# Altium footprint library 2440_LIB.PcbLib: 50 footprints (part 1 of 4)
Each footprint in its own frame and in the unit in brackets; x right, y up, seen from the top. Pads: shape width x height; smd on the part's side, far side on the other; paste and mask are expansions set on the pad; w line width, h text height; cw(c..) or ccw(c..) is an arc to the next point about the centre after c.
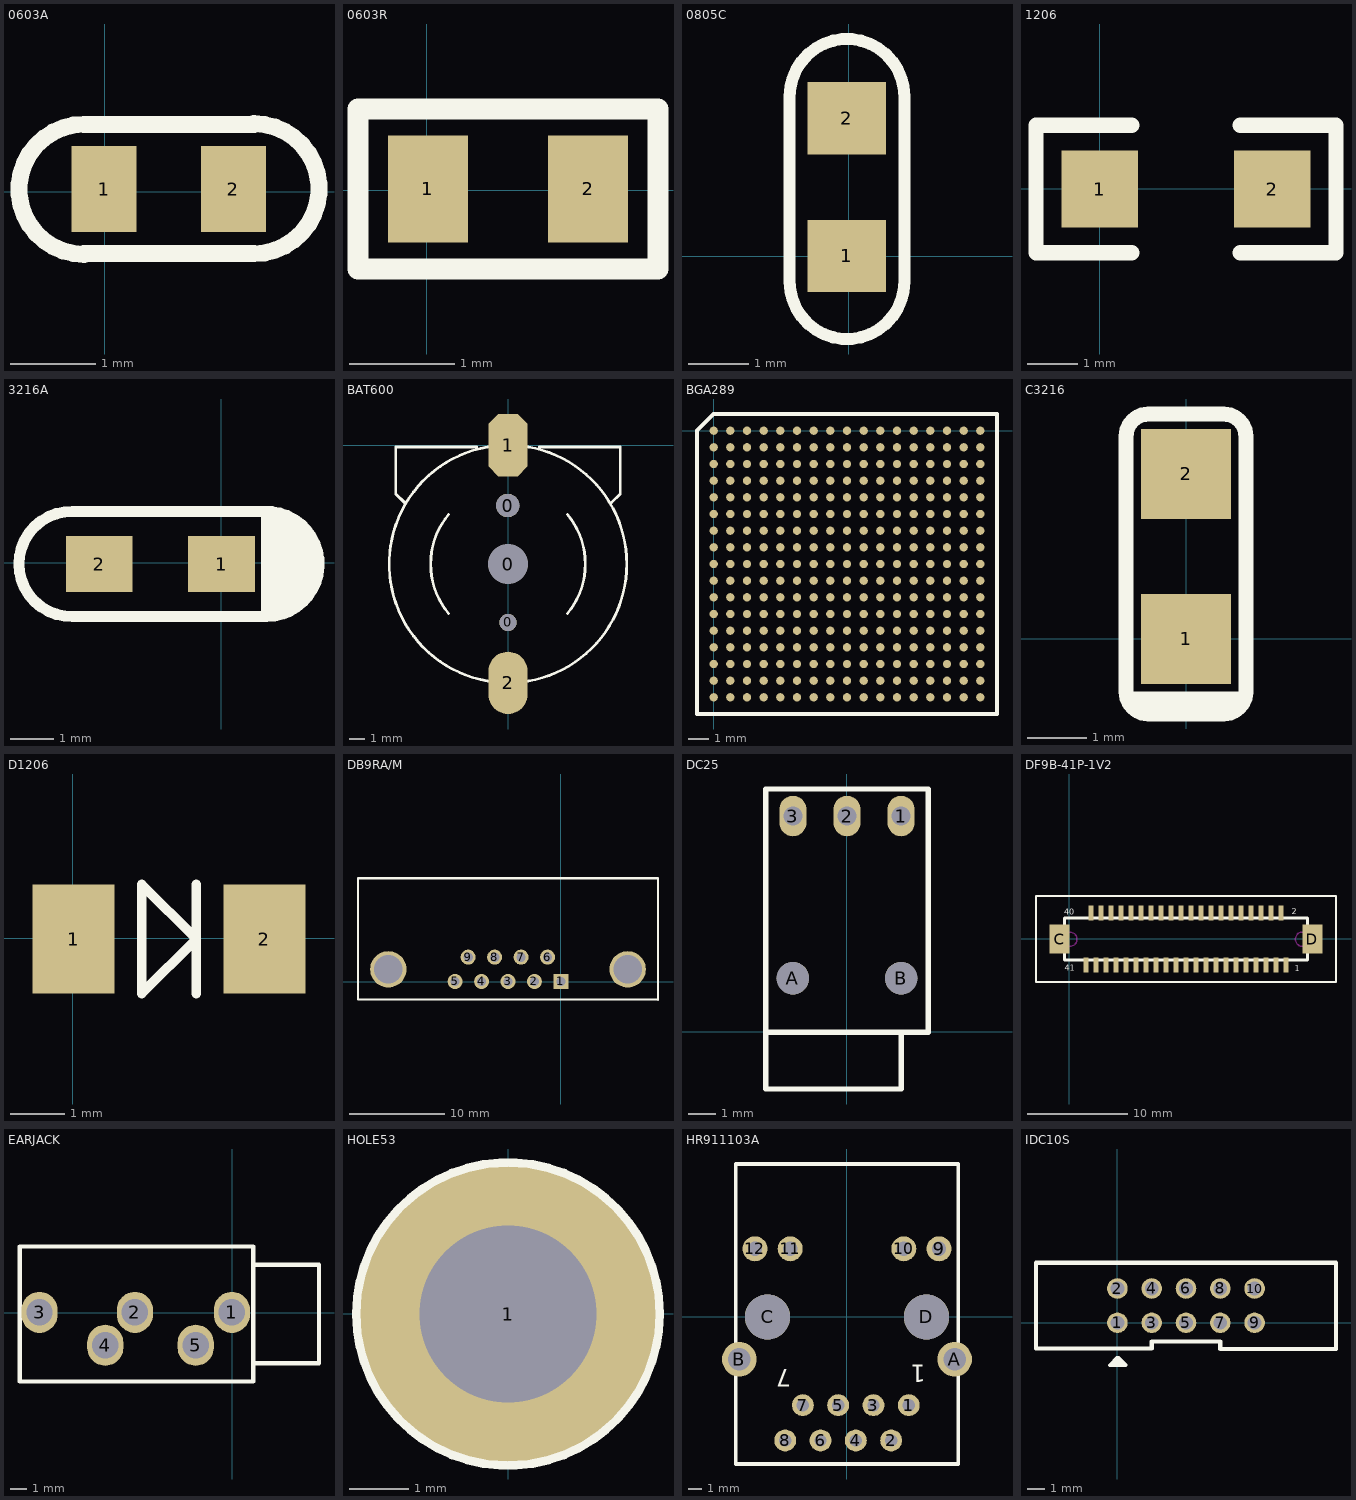
[diagram p0: the footprints below, top view; thin cyan lines are the x and y axes]

## 0603A [mil]
pads (2):
  rect 30x40 smd: 1(-0.26,1.21) 2(59.74,1.21)
TopOverlay:
  lines w7.87: -9.51,-29.07 cw(c-9.51,1.07) -9.51,31.21 69.23,31.21 ; -9.51,-28.79 69.23,-28.79 ccw(c69.23,1.35) 69.23,31.5

## 0603R [mil]
pads (2):
  rect 30x40 smd: 1(0.47,0.42) 2(60.47,0.42)
TopOverlay:
  lines w7.87: -25.67,-29.58 86.61,-29.58 86.61,30.42 -25.67,30.42 -25.67,-29.58

## 0805C [mm]
pads (2):
  rect 1.3x1.2 smd: 1(-0.031,0.002) 2(-0.031,2.288)
TopOverlay:
  lines w0.2: -0.978,-0.425 ccw(c-0.028,-0.425) 0.922,-0.425 0.922,2.65 ccw(c-0.028,2.65) -0.978,2.65 -0.978,-0.425

## 1206 [mil]
pads (2):
  rect 60x60 smd: 1(-0.03,-0.3) 2(134.97,-0.3)
TopOverlay:
  lines w12: 24.97,-50.3 -50.03,-50.3 -50.03,49.7 24.97,49.7 ; 109.97,-50.3 184.97,-50.3 184.97,49.7 109.97,49.7

## 3216A [mil]
pads (2):
  rect 60x50 smd: 1(0.44,-1.2) 2(-109.56,-1.2)
TopOverlay:
  rectangle: 45.73,-44.53 62.47,40.12
  rectangle: 57.54,-37.64 71.32,37.17
  rectangle: 66.4,-32.72 82.15,29.29
  rectangle: 69.36,-11.06 86.09,15.51
  rectangle: 42.76,-41.55 66.38,42.11
  lines w10: -133.43,46.04 39.81,46.04 ; -133.38,46.04 ccw(c-134.41,-1.2) -133.38,-48.45 40.79,-48.45 ; 38.54,45.99 cw(c40.79,-1.2) 40.79,-48.45 ; 40.79,44.08 40.79,-48.45

## BAT600 [mm]
pads (5):
  round 1.5 hole 1.5: 0(-0.026,-3.879)
  round 1.1 hole 1.1: 0(-0.001,-11.379)
  round 2.54 hole 2.54: 0(-0.001,-7.629)
  oct 2.5x4 smd: 1(-0.001,-0.009)
  oval 2.5x4 smd: 2(-0.001,-15.249)
TopOverlay:
  lines w0.178: -6.626,-3.704 -7.201,-3.129 -7.201,-0.129 -2.001,-0.129 ; -3.813,-10.801 cw(c-0.001,-7.629) -3.811,-4.454 ; -0.834,-15.203 cw(c-0.001,-7.629) -0.834,-0.055 ; 0.833,-15.203 ccw(c-0.001,-7.629) 7.619,-7.629 ccw(c-0.001,-7.629) 0.833,-0.055 ; 1.999,-0.129 7.199,-0.129 7.199,-3.129 6.599,-3.729 ; 3.812,-10.801 ccw(c-0.001,-7.629) 3.814,-4.46

## BGA289 [mm]
pads (289):
  round 0.4 smd: A1(-0.003,0.009) A2(0.797,0.009) A3(1.597,0.009) A4(2.397,0.009) A5(3.197,0.009) A6(3.997,0.009) A7(4.797,0.009) A8(5.597,0.009) A9(6.397,0.009) A10(7.197,0.009) A11(7.997,0.009) A12(8.797,0.009) A13(9.597,0.009) A14(10.397,0.009) A15(11.197,0.009) A16(11.997,0.009) A17(12.797,0.009) B1(-0.003,-0.791) B2(0.797,-0.791) B3(1.597,-0.791) B4(2.397,-0.791) B5(3.197,-0.791) B6(3.997,-0.791) B7(4.797,-0.791) B8(5.597,-0.791) B9(6.397,-0.791) B10(7.197,-0.791) B11(7.997,-0.791) B12(8.797,-0.791) B13(9.597,-0.791) B14(10.397,-0.791) B15(11.197,-0.791) B16(11.997,-0.791) B17(12.797,-0.791) C1(-0.003,-1.591) C2(0.797,-1.591) C3(1.597,-1.591) C4(2.397,-1.591) C5(3.197,-1.591) C6(3.997,-1.591) C7(4.797,-1.591) C8(5.597,-1.591) C9(6.397,-1.591) C10(7.197,-1.591) C11(7.997,-1.591) C12(8.797,-1.591) C13(9.597,-1.591) C14(10.397,-1.591) C15(11.197,-1.591) C16(11.997,-1.591) C17(12.797,-1.591) D1(-0.003,-2.391) D2(0.797,-2.391) D3(1.597,-2.391) D4(2.397,-2.391) D5(3.197,-2.391) D6(3.997,-2.391) D7(4.797,-2.391) D8(5.597,-2.391) D9(6.397,-2.391) D10(7.197,-2.391) D11(7.997,-2.391) D12(8.797,-2.391) D13(9.597,-2.391) D14(10.397,-2.391) D15(11.197,-2.391) D16(11.997,-2.391) D17(12.797,-2.391) E1(-0.003,-3.191) E2(0.797,-3.191) E3(1.597,-3.191) E4(2.397,-3.191) E5(3.197,-3.191) E6(3.997,-3.191) E7(4.797,-3.191) E8(5.597,-3.191) E9(6.397,-3.191) E10(7.197,-3.191) E11(7.997,-3.191) E12(8.797,-3.191) E13(9.597,-3.191) E14(10.397,-3.191) E15(11.197,-3.191) E16(11.997,-3.191) E17(12.797,-3.191) F1(-0.003,-3.991) F2(0.797,-3.991) F3(1.597,-3.991) F4(2.397,-3.991) F5(3.197,-3.991) F6(3.997,-3.991) F7(4.797,-3.991) F8(5.597,-3.991) F9(6.397,-3.991) F10(7.197,-3.991) F11(7.997,-3.991) F12(8.797,-3.991) F13(9.597,-3.991) F14(10.397,-3.991) F15(11.197,-3.991) F16(11.997,-3.991) F17(12.797,-3.991) G1(-0.003,-4.791) G2(0.797,-4.791) G3(1.597,-4.791) G4(2.397,-4.791) G5(3.197,-4.791) G6(3.997,-4.791) G7(4.797,-4.791) G8(5.597,-4.791) G9(6.397,-4.791) G10(7.197,-4.791) G11(7.997,-4.791) G12(8.797,-4.791) G13(9.597,-4.791) G14(10.397,-4.791) G15(11.197,-4.791) G16(11.997,-4.791) G17(12.797,-4.791) H1(-0.003,-5.591) H2(0.797,-5.591) H3(1.597,-5.591) H4(2.397,-5.591) H5(3.197,-5.591) H6(3.997,-5.591) H7(4.797,-5.591) H8(5.597,-5.591) H9(6.397,-5.591) H10(7.197,-5.591) H11(7.997,-5.591) H12(8.797,-5.591) H13(9.597,-5.591) H14(10.397,-5.591) H15(11.197,-5.591) H16(11.997,-5.591) H17(12.797,-5.591) J1(-0.003,-6.391) J2(0.797,-6.391) J3(1.597,-6.391) J4(2.397,-6.391) J5(3.197,-6.391) J6(3.997,-6.391) J7(4.797,-6.391) J8(5.597,-6.391) J9(6.397,-6.391) J10(7.197,-6.391) J11(7.997,-6.391) J12(8.797,-6.391) J13(9.597,-6.391) J14(10.397,-6.391) J15(11.197,-6.391) J16(11.997,-6.391) J17(12.797,-6.391) K1(-0.003,-7.191) K2(0.797,-7.191) K3(1.597,-7.191) K4(2.397,-7.191) K5(3.197,-7.191) K6(3.997,-7.191) K7(4.797,-7.191) K8(5.597,-7.191) K9(6.397,-7.191) K10(7.197,-7.191) K11(7.997,-7.191) K12(8.797,-7.191) K13(9.597,-7.191) K14(10.397,-7.191) K15(11.197,-7.191) K16(11.997,-7.191) K17(12.797,-7.191) L1(-0.003,-7.991) L2(0.797,-7.991) L3(1.597,-7.991) L4(2.397,-7.991) L5(3.197,-7.991) L6(3.997,-7.991) L7(4.797,-7.991) L8(5.597,-7.991) L9(6.397,-7.991) L10(7.197,-7.991) L11(7.997,-7.991) L12(8.797,-7.991) L13(9.597,-7.991) L14(10.397,-7.991) L15(11.197,-7.991) L16(11.997,-7.991) L17(12.797,-7.991) M1(-0.003,-8.791) M2(0.797,-8.791) M3(1.597,-8.791) M4(2.397,-8.791) M5(3.197,-8.791) M6(3.997,-8.791) M7(4.797,-8.791) M8(5.597,-8.791) M9(6.397,-8.791) M10(7.197,-8.791) M11(7.997,-8.791) M12(8.797,-8.791) M13(9.597,-8.791) M14(10.397,-8.791) M15(11.197,-8.791) M16(11.997,-8.791) M17(12.797,-8.791) N1(-0.003,-9.591) N2(0.797,-9.591) N3(1.597,-9.591) N4(2.397,-9.591) N5(3.197,-9.591) N6(3.997,-9.591) N7(4.797,-9.591) N8(5.597,-9.591) N9(6.397,-9.591) N10(7.197,-9.591) N11(7.997,-9.591) N12(8.797,-9.591) N13(9.597,-9.591) N14(10.397,-9.591) N15(11.197,-9.591) N16(11.997,-9.591) N17(12.797,-9.591) P1(-0.003,-10.391) P2(0.797,-10.391) P3(1.597,-10.391) P4(2.397,-10.391) P5(3.197,-10.391) P6(3.997,-10.391) P7(4.797,-10.391) P8(5.597,-10.391) P9(6.397,-10.391) P10(7.197,-10.391) P11(7.997,-10.391) P12(8.797,-10.391) P13(9.597,-10.391) P14(10.397,-10.391) P15(11.197,-10.391) P16(11.997,-10.391) P17(12.797,-10.391) R1(-0.003,-11.191) R2(0.797,-11.191) R3(1.597,-11.191) R4(2.397,-11.191) R5(3.197,-11.191) R6(3.997,-11.191) R7(4.797,-11.191) R8(5.597,-11.191) R9(6.397,-11.191) R10(7.197,-11.191) R11(7.997,-11.191) R12(8.797,-11.191) R13(9.597,-11.191) R14(10.397,-11.191) R15(11.197,-11.191) R16(11.997,-11.191) R17(12.797,-11.191) T1(-0.003,-11.991) T2(0.797,-11.991) T3(1.597,-11.991) T4(2.397,-11.991) T5(3.197,-11.991) T6(3.997,-11.991) T7(4.797,-11.991) T8(5.597,-11.991) T9(6.397,-11.991) T10(7.197,-11.991) T11(7.997,-11.991) T12(8.797,-11.991) T13(9.597,-11.991) T14(10.397,-11.991) T15(11.197,-11.991) T16(11.997,-11.991) T17(12.797,-11.991) U1(-0.003,-12.791) U2(0.797,-12.791) U3(1.597,-12.791) U4(2.397,-12.791) U5(3.197,-12.791) U6(3.997,-12.791) U7(4.797,-12.791) U8(5.597,-12.791) U9(6.397,-12.791) U10(7.197,-12.791) U11(7.997,-12.791) U12(8.797,-12.791) U13(9.597,-12.791) U14(10.397,-12.791) U15(11.197,-12.791) U16(11.997,-12.791) U17(12.797,-12.791)
TopOverlay:
  lines w0.2: -0.803,-13.591 13.597,-13.591 13.597,0.809 -0.003,0.809 -0.803,0.009 -0.803,-13.591

## C3216 [mil]
pads (2):
  rect 60x60 smd: 1(0,0) 2(0,110)
TopOverlay:
  lines w10: -35,-40 35,-40 ccw(c35,-35) 40,-35 ; 40,-35 cw(c25,-35) 25,-50 -25,-50 cw(c-25,-35) -40,-35 -40,135 cw(c-25,135) -25,150 25,150 cw(c25,135) 40,135 40,130 40,-35

## D1206 [mm]
pads (2):
  rect 1.5x2 smd: 1(0.015,-0.01) 2(3.515,-0.01)
TopOverlay:
  lines w0.025: 1.265,0.99 1.265,0.99 ; 2.265,-0.01 2.265,-0.01
  lines w0.178: 2.265,-1.01 2.265,0.99 ; 1.265,-1.01 2.265,-0.01 1.265,0.99 1.265,-1.01

## DB9RA/M [mil]
pads (11):
  rect 62x62 hole 38: 1(0.38,0.31)
  round 62 hole 38: 2(-108.62,0.31) 3(-217.62,0.31) 4(-326.62,0.31) 5(-435.62,0.31) 6(-54.62,100.31) 7(-163.62,100.31) 8(-272.62,100.31) 9(-381.62,100.31)
  round 150 hole 118.11: ""(-710.62,50.31) ""(275.38,50.31)
TopOverlay:
  lines w8: -835.62,425.31 -835.62,-74.69 400.38,-74.69
  lines w10: -835.62,425.31 400.38,425.31 400.38,-74.69

## DC25 [mm]
pads (5):
  oval 1x1.5 hole 0.7: 1(2.012,7.989) 2(0.012,7.989) 3(-1.988,7.989)
  round 1.2 hole 1.2: A(-1.988,1.989) B(2.012,1.989)
TopOverlay:
  lines w0.203: 2.012,-0.011 2.012,-2.111 -2.988,-2.111 -2.988,-0.011 ; -2.988,-0.011 3.012,-0.011 3.012,8.989 -2.988,8.989 -2.988,-0.011

## DF9B-41P-1V2 [mm]
pads (43):
  rect 0.5x1.5 smd: 1(21.667,-2.605) 2(21.167,2.595) 3(20.667,-2.605) 4(20.167,2.595) 5(19.667,-2.605) 6(19.167,2.595) 7(18.667,-2.605) 8(18.167,2.595) 9(17.667,-2.605) 10(17.167,2.595) 11(16.667,-2.605) 12(16.167,2.595) 13(15.667,-2.605) 14(15.167,2.595) 15(14.667,-2.605) 16(14.167,2.595) 17(13.667,-2.605) 18(13.167,2.595) 19(12.667,-2.605) 20(12.167,2.595) 21(11.667,-2.605) 22(11.167,2.595) 23(10.667,-2.605) 24(10.167,2.595) 25(9.667,-2.605) 26(9.167,2.595) 27(8.667,-2.605) 28(8.167,2.595) 29(7.667,-2.605) 30(7.167,2.595) 31(6.667,-2.605) 32(6.167,2.595) 33(5.667,-2.605) 34(5.167,2.595) 35(4.667,-2.605) 36(4.167,2.595) 37(3.667,-2.605) 38(3.167,2.595) 39(2.667,-2.605) 40(2.167,2.595) 41(1.667,-2.605)
  rect 2x2.9 smd: C(-0.983,-0.005) D(24.317,-0.005)
TopOverlay:
  lines w0.2: -3.333,-4.305 -3.333,4.295 ; -3.333,-4.303 26.667,-4.303 ; -3.333,4.297 26.667,4.297 ; 26.667,-4.305 26.667,4.295
  lines w0.254: -0.483,-2.105 23.817,-2.105 23.817,2.095 -0.483,2.095 -0.483,-2.105
  text "40" at -0.508,2.42 h0.6
  text "41" at -0.483,-3.155 h0.6
  text "2" at 22.267,2.47 h0.6
  text "1" at 22.517,-3.23 h0.6
KeepOutLayer:
  circle w0.127: c23.317,-0.025 r0.711
  circle w0.127: c0.051,-0.025 r0.711

## EARJACK [mm]
pads (5):
  oval 2.2x2.5 hole 1.6: 1(-0.008,0.012) 2(-5.908,0.012) 3(-11.708,0.012) 4(-7.708,-1.988) 5(-2.208,-1.988)
TopOverlay:
  lines w0.254: 1.292,-3.088 5.292,-3.088 5.292,2.912 1.292,2.912 ; -12.908,-4.188 -12.908,4.012 1.292,4.012 1.292,-4.188 -12.908,-4.188

## HOLE53 [mm]
pads (1):
  round 5 hole 3: 1(-0.001,-0.004)
TopOverlay:
  circle w0.2: c-0.001,-0.004 r2.54

## HR911103A [mm]
pads (16):
  round 1.575 hole 0.889: 1(4.462,-6.344) 2(3.192,-8.884) 3(1.922,-6.344) 4(0.652,-8.884) 5(-0.618,-6.344) 6(-1.888,-8.884) 7(-3.158,-6.344) 8(-4.428,-8.884)
  round 1.8 hole 1.02: 9(6.642,4.906) 10(4.102,4.906) 11(-4.068,4.906) 12(-6.608,4.906)
  round 2.5 hole 1.63: A(7.762,-3.044) B(-7.728,-3.044)
  round 3.25 hole 3.25: C(-5.698,0.006) D(5.732,0.006)
TopOverlay:
  lines w0.254: -7.983,-10.577 -7.983,11.006 8.017,11.006 8.017,-10.577 -7.983,-10.577
  text "1" at 5.677,-3.445 h1.27
  text "7" at -3.982,-3.777 h1.27

## IDC10S [mm]
pads (10):
  round 1.2 hole 0.8: 1(0.004,0.002) 2(0.004,2.002) 3(2.004,0.002) 4(2.004,2.002) 5(4.004,0.002) 6(4.004,2.002) 7(6.004,0.002) 8(6.004,2.002) 9(8.004,0.002) 10(8.004,2.002)
TopOverlay:
  lines w0.2: 0.316,-2.285 -0.23,-2.285 -0.244,-2.271 0.11,-2.271 0.206,-2.175 0.206,-2.246 -0.021,-2.473 -0.021,-2.048 0.004,-2.023 ; 0.004,-2.023 -0.446,-2.473 0.304,-2.473 0.504,-2.473 0.054,-2.023 0.004,-2.023
  lines w0.254: 12.754,-1.523 6.004,-1.523 6.004,-1.094 2.004,-1.094 2.004,-1.498 -4.746,-1.498 -4.746,3.502 12.754,3.502 12.754,-1.498